# Altium schematic symbol library Resistors.SchLib: 1 symbol
Pins are listed as number, name and electrical type; pins without a type are passive.

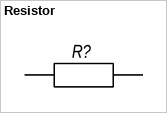
[diagram p0: symbol Resistor]

## Resistor
designator R?  (value not drawn)
pins: 1, 2 1